# EAGLE library part IV-18 (library FHD-RETRO)
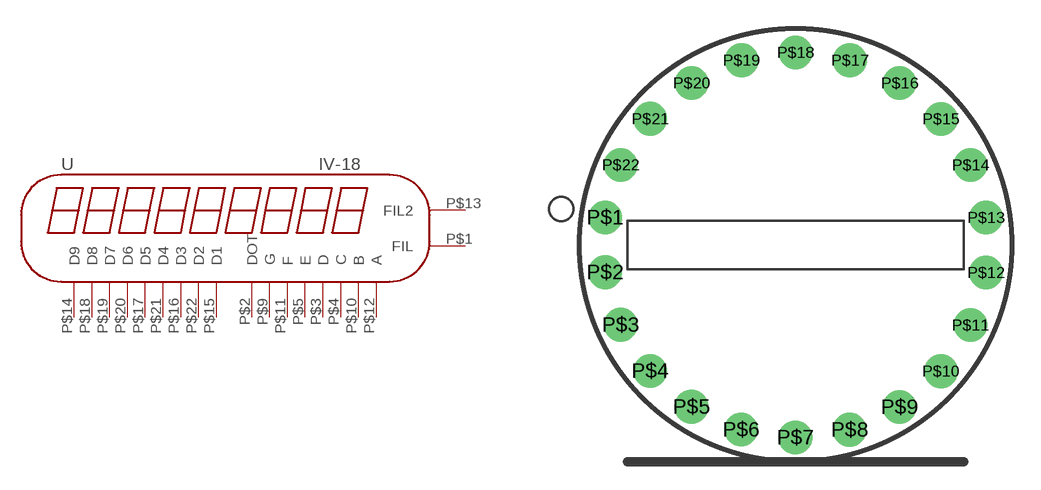
[diagram p11: symbol with the pads of IV18; footprint IV18]

Designator prefix -

## IV-18  [IV18]
P$1  FIL
P$2  DOT
P$3  D
P$4  C
P$5  E
P$9  G
P$10  B
P$11  F
P$12  A
P$13  FIL2
P$14  D9
P$15  D1
P$16  D3
P$17  D5
P$18  D8
P$19  D7
P$20  D6
P$21  D4
P$22  D2

## Footprint IV18 (pad centres in mm)
drill 0.813 pad 1.778: P$1 -10.056,1.453; P$2 -10.058,-1.439; P$3 -9.245,-4.213; P$4 -7.684,-6.647; P$5 -5.501,-8.542; P$6 -2.872,-9.746; P$7 -0.011,-10.16; P$8 2.852,-9.752; P$9 5.483,-8.554; P$10 7.67,-6.663; P$11 9.236,-4.233; P$12 10.055,-1.46; P$13 10.057,1.446; P$14 9.242,4.22; P$15 7.679,6.652; P$16 5.495,8.546; P$17 2.865,9.748; P$18 0.004,10.16; P$19 -2.858,9.75; P$20 -5.489,8.55; P$21 -7.675,6.658; P$22 -9.239,4.226